# Altium schematic symbol library Triac_Thyristor.SchLib: 46 symbols
Pins are listed as number, name and electrical type; pins without a type are passive.

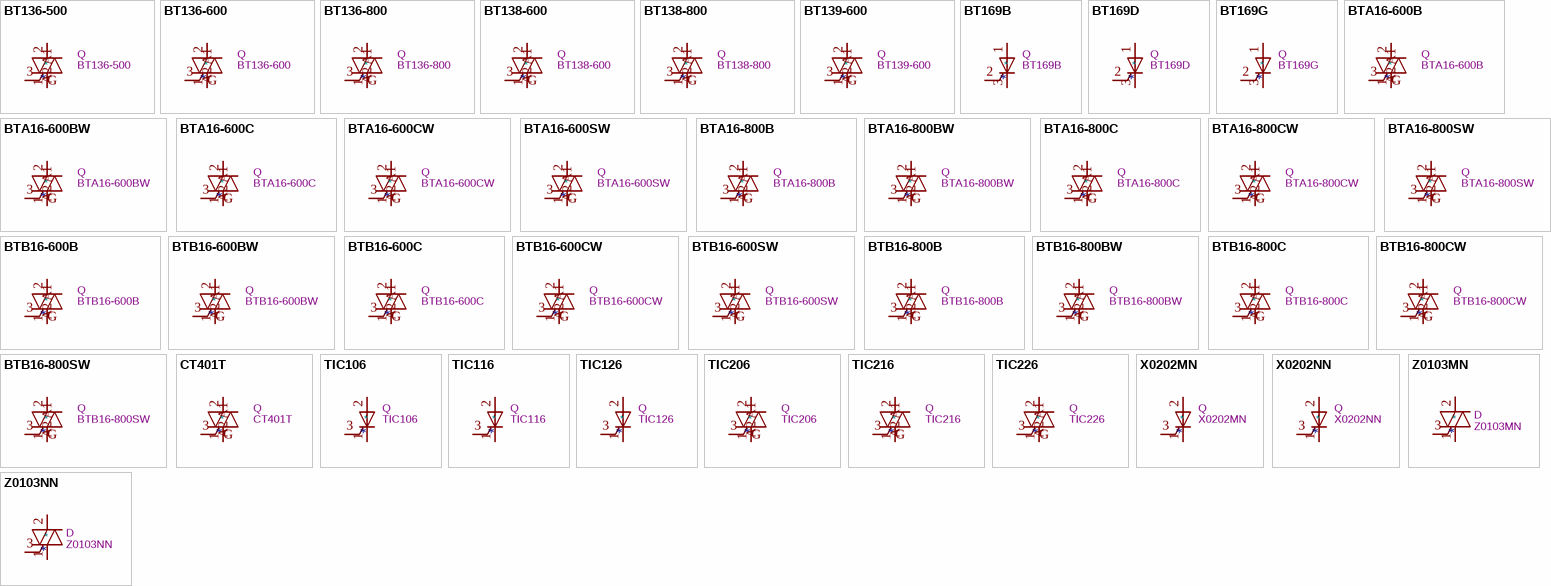
[diagram p0: symbols BT136-500 to Z0103NN]

## BT136-500
designator *  value BT136-500  Reference: Q
ki_keywords: Triac; ki_description: 4A RMS, 500V Off-State Voltage, Triac, TO-220; ki_fp_filters: TO?220*; Footprint: Package_TO_SOT_THT:TO-220-3_Vertical; Datasheet: http://www.micropik.com/PDF/BT136-600.pdf
pins: 1 A1, 2 A2, 3 G

## BT136-600
designator *  value BT136-600  Reference: Q
ki_keywords: Triac; ki_description: 4A RMS, 500V Off-State Voltage, Triac, TO-220; ki_fp_filters: TO?220*; Footprint: Package_TO_SOT_THT:TO-220-3_Vertical; Datasheet: http://www.micropik.com/PDF/BT136-600.pdf
pins: 1 A1, 2 A2, 3 G

## BT136-800
designator *  value BT136-800  Reference: Q
ki_keywords: Triac; ki_description: 4A RMS, 800V Off-State Voltage, Triac, TO-220; ki_fp_filters: TO?220*; Footprint: Package_TO_SOT_THT:TO-220-3_Vertical; Datasheet: http://www.micropik.com/PDF/BT136-600.pdf
pins: 1 A1, 2 A2, 3 G

## BT138-600
designator *  value BT138-600  Reference: Q
ki_keywords: Triac; ki_description: 12A RMS, 600V Off-State Voltage, Triac, TO-220; ki_fp_filters: TO?220*; Footprint: Package_TO_SOT_THT:TO-220-3_Vertical; Datasheet: https://assets.nexperia.com/documents/data-sheet/BT138_SER_D_E.pdf
pins: 1 A1, 2 A2, 3 G

## BT138-800
designator *  value BT138-800  Reference: Q
ki_keywords: Triac; ki_description: 12A RMS, 800V Off-State Voltage, Triac, TO-220; ki_fp_filters: TO?220*; Footprint: Package_TO_SOT_THT:TO-220-3_Vertical; Datasheet: https://assets.nexperia.com/documents/data-sheet/BT138_SER_D_E.pdf
pins: 1 A1, 2 A2, 3 G

## BT139-600
designator *  value BT139-600  Reference: Q
ki_keywords: Triac; ki_description: 16A RMS, 600V Off-State Voltage, 4Q Triac, TO-220; ki_fp_filters: TO?220*; Footprint: Package_TO_SOT_THT:TO-220-3_Vertical; Datasheet: https://www.rapidonline.com/pdf/47-3240.pdf
pins: 1 A1, 2 A2, 3 G

## BT169B
designator *  value BT169B  Reference: Q
ki_keywords: thyristor logic level; ki_description: 0.5A Ion, 200V Voff, Thyristors logic level, Silicon Controlled Rectifier (Thyristor), TO-92; ki_fp_filters: TO?92*Inline*Narrow*; Footprint: Package_TO_SOT_THT:TO-92_Inline; Datasheet: https://media.digikey.com/pdf/Data%20Sheets/NXP%20PDFs/BT169_Series.pdf
pins: 1 A, 2 G, 3 K

## BT169D
designator *  value BT169D  Reference: Q
ki_keywords: thyristor logic level; ki_description: 0.5A Ion, 400V Voff, Thyristors logic level, Silicon Controlled Rectifier (Thyristor), TO-92; ki_fp_filters: TO?92*Inline*Narrow*; Footprint: Package_TO_SOT_THT:TO-92_Inline; Datasheet: https://media.digikey.com/pdf/Data%20Sheets/NXP%20PDFs/BT169_Series.pdf
pins: 1 A, 2 G, 3 K

## BT169G
designator *  value BT169G  Reference: Q
ki_keywords: thyristor logic level; ki_description: 0.5A Ion, 600V Voff, Thyristors logic level, Silicon Controlled Rectifier (Thyristor), TO-92; ki_fp_filters: TO?92*Inline*Narrow*; Footprint: Package_TO_SOT_THT:TO-92_Inline; Datasheet: https://media.digikey.com/pdf/Data%20Sheets/NXP%20PDFs/BT169_Series.pdf
pins: 1 A, 2 G, 3 K

## BTA16-600B
designator *  value BTA16-600B  Reference: Q
ki_keywords: Triac; ki_description: 16A RMS, 600V Off-State Voltage, 50mA Sensitivity, Insulated, Triac, TO-220; ki_fp_filters: TO?220*; Footprint: Package_TO_SOT_THT:TO-220-3_Vertical; Datasheet: https://www.st.com/resource/en/datasheet/bta16.pdf
pins: 1 A1, 2 A2, 3 G

## BTA16-600BW
designator *  value BTA16-600BW  Reference: Q
ki_keywords: Triac; ki_description: 16A RMS, 600V Off-State Voltage, 50mA Sensitivity, Snubberless, Insulated, Triac, TO-220; ki_fp_filters: TO?220*; Footprint: Package_TO_SOT_THT:TO-220-3_Vertical; Datasheet: https://www.st.com/resource/en/datasheet/bta16.pdf
pins: 1 A1, 2 A2, 3 G

## BTA16-600C
designator *  value BTA16-600C  Reference: Q
ki_keywords: Triac; ki_description: 16A RMS, 600V Off-State Voltage, 35mA Sensitivity, Insulated, Triac, TO-220; ki_fp_filters: TO?220*; Footprint: Package_TO_SOT_THT:TO-220-3_Vertical; Datasheet: https://www.st.com/resource/en/datasheet/bta16.pdf
pins: 1 A1, 2 A2, 3 G

## BTA16-600CW
designator *  value BTA16-600CW  Reference: Q
ki_keywords: Triac; ki_description: 16A RMS, 600V Off-State Voltage, 35mA Sensitivity, Snubberless, Insulated, Triac, TO-220; ki_fp_filters: TO?220*; Footprint: Package_TO_SOT_THT:TO-220-3_Vertical; Datasheet: https://www.st.com/resource/en/datasheet/bta16.pdf
pins: 1 A1, 2 A2, 3 G

## BTA16-600SW
designator *  value BTA16-600SW  Reference: Q
ki_keywords: Triac; ki_description: 16A RMS, 600V Off-State Voltage, 10mA Sensitivity, Snubberless, Insulated, Triac, TO-220; ki_fp_filters: TO?220*; Footprint: Package_TO_SOT_THT:TO-220-3_Vertical; Datasheet: https://www.st.com/resource/en/datasheet/bta16.pdf
pins: 1 A1, 2 A2, 3 G

## BTA16-800B
designator *  value BTA16-800B  Reference: Q
ki_keywords: Triac; ki_description: 16A RMS, 800V Off-State Voltage, 50mA Sensitivity, Insulated, Triac, TO-220; ki_fp_filters: TO?220*; Footprint: Package_TO_SOT_THT:TO-220-3_Vertical; Datasheet: https://www.st.com/resource/en/datasheet/bta16.pdf
pins: 1 A1, 2 A2, 3 G

## BTA16-800BW
designator *  value BTA16-800BW  Reference: Q
ki_keywords: Triac; ki_description: 16A RMS, 800V Off-State Voltage, 50mA Sensitivity, Snubberless, Insulated, Triac, TO-220; ki_fp_filters: TO?220*; Footprint: Package_TO_SOT_THT:TO-220-3_Vertical; Datasheet: https://www.st.com/resource/en/datasheet/bta16.pdf
pins: 1 A1, 2 A2, 3 G

## BTA16-800C
designator *  value BTA16-800C  Reference: Q
ki_keywords: Triac; ki_description: 16A RMS, 800V Off-State Voltage, 35mA Sensitivity, Insulated, Triac, TO-220; ki_fp_filters: TO?220*; Footprint: Package_TO_SOT_THT:TO-220-3_Vertical; Datasheet: https://www.st.com/resource/en/datasheet/bta16.pdf
pins: 1 A1, 2 A2, 3 G

## BTA16-800CW
designator *  value BTA16-800CW  Reference: Q
ki_keywords: Triac; ki_description: 16A RMS, 800V Off-State Voltage, 35mA Sensitivity, Snubberless, Insulated, Triac, TO-220; ki_fp_filters: TO?220*; Footprint: Package_TO_SOT_THT:TO-220-3_Vertical; Datasheet: https://www.st.com/resource/en/datasheet/bta16.pdf
pins: 1 A1, 2 A2, 3 G

## BTA16-800SW
designator *  value BTA16-800SW  Reference: Q
ki_keywords: Triac; ki_description: 16A RMS, 800V Off-State Voltage, 10mA Sensitivity, Snubberless, Insulated, Triac, TO-220; ki_fp_filters: TO?220*; Footprint: Package_TO_SOT_THT:TO-220-3_Vertical; Datasheet: https://www.st.com/resource/en/datasheet/bta16.pdf
pins: 1 A1, 2 A2, 3 G

## BTB16-600B
designator *  value BTB16-600B  Reference: Q
ki_keywords: Triac; ki_description: 16A RMS, 600V Off-State Voltage, 50mA Sensitivity, Non-Insulated, Triac, TO-220; ki_fp_filters: TO?220*; Footprint: Package_TO_SOT_THT:TO-220-3_Vertical; Datasheet: https://www.st.com/resource/en/datasheet/bta16.pdf
pins: 1 A1, 2 A2, 3 G

## BTB16-600BW
designator *  value BTB16-600BW  Reference: Q
ki_keywords: Triac; ki_description: 16A RMS, 600V Off-State Voltage, 50mA Sensitivity, Snubberless, Non-Insulated, Triac, TO-220; ki_fp_filters: TO?220*; Footprint: Package_TO_SOT_THT:TO-220-3_Vertical; Datasheet: https://www.st.com/resource/en/datasheet/bta16.pdf
pins: 1 A1, 2 A2, 3 G

## BTB16-600C
designator *  value BTB16-600C  Reference: Q
ki_keywords: Triac; ki_description: 16A RMS, 600V Off-State Voltage, 35mA Sensitivity, Non-Insulated, Triac, TO-220; ki_fp_filters: TO?220*; Footprint: Package_TO_SOT_THT:TO-220-3_Vertical; Datasheet: https://www.st.com/resource/en/datasheet/bta16.pdf
pins: 1 A1, 2 A2, 3 G

## BTB16-600CW
designator *  value BTB16-600CW  Reference: Q
ki_keywords: Triac; ki_description: 16A RMS, 600V Off-State Voltage, 35mA Sensitivity, Snubberless, Non-Insulated, Triac, TO-220; ki_fp_filters: TO?220*; Footprint: Package_TO_SOT_THT:TO-220-3_Vertical; Datasheet: https://www.st.com/resource/en/datasheet/bta16.pdf
pins: 1 A1, 2 A2, 3 G

## BTB16-600SW
designator *  value BTB16-600SW  Reference: Q
ki_keywords: Triac; ki_description: 16A RMS, 600V Off-State Voltage, 10mA Sensitivity, Snubberless, Non-Insulated, Triac, TO-220; ki_fp_filters: TO?220*; Footprint: Package_TO_SOT_THT:TO-220-3_Vertical; Datasheet: https://www.st.com/resource/en/datasheet/bta16.pdf
pins: 1 A1, 2 A2, 3 G

## BTB16-800B
designator *  value BTB16-800B  Reference: Q
ki_keywords: Triac; ki_description: 16A RMS, 800V Off-State Voltage, 50mA Sensitivity, Non-Insulated, Triac, TO-220; ki_fp_filters: TO?220*; Footprint: Package_TO_SOT_THT:TO-220-3_Vertical; Datasheet: https://www.st.com/resource/en/datasheet/bta16.pdf
pins: 1 A1, 2 A2, 3 G

## BTB16-800BW
designator *  value BTB16-800BW  Reference: Q
ki_keywords: Triac; ki_description: 16A RMS, 800V Off-State Voltage, 50mA Sensitivity, Snubberless, Non-Insulated, Triac, TO-220; ki_fp_filters: TO?220*; Footprint: Package_TO_SOT_THT:TO-220-3_Vertical; Datasheet: https://www.st.com/resource/en/datasheet/bta16.pdf
pins: 1 A1, 2 A2, 3 G

## BTB16-800C
designator *  value BTB16-800C  Reference: Q
ki_keywords: Triac; ki_description: 16A RMS, 800V Off-State Voltage, 35mA Sensitivity, Non-Insulated, Triac, TO-220; ki_fp_filters: TO?220*; Footprint: Package_TO_SOT_THT:TO-220-3_Vertical; Datasheet: https://www.st.com/resource/en/datasheet/bta16.pdf
pins: 1 A1, 2 A2, 3 G

## BTB16-800CW
designator *  value BTB16-800CW  Reference: Q
ki_keywords: Triac; ki_description: 16A RMS, 800V Off-State Voltage, 35mA Sensitivity, Snubberless, Non-Insulated, Triac, TO-220; ki_fp_filters: TO?220*; Footprint: Package_TO_SOT_THT:TO-220-3_Vertical; Datasheet: https://www.st.com/resource/en/datasheet/bta16.pdf
pins: 1 A1, 2 A2, 3 G

## BTB16-800SW
designator *  value BTB16-800SW  Reference: Q
ki_keywords: Triac; ki_description: 16A RMS, 800V Off-State Voltage, 10mA Sensitivity, Snubberless, Non-Insulated, Triac, TO-220; ki_fp_filters: TO?220*; Footprint: Package_TO_SOT_THT:TO-220-3_Vertical; Datasheet: https://www.st.com/resource/en/datasheet/bta16.pdf
pins: 1 A1, 2 A2, 3 G

## CT401T
designator *  value CT401T  Reference: Q
ki_keywords: Triac; ki_description: 1A RMS, 600-800V Off-State Voltage, 1.55V On-State Voltage, Triac, SOT-223; ki_fp_filters: SOT?223*; Footprint: Package_TO_SOT_SMD:SOT-223; Datasheet: https://www.jscj-elec.com/gallery//file/CT401T-600%20SOT-223-3LK%20V1.pdf
pins: 1 A1, 2 A2, 3 G

## TIC106
designator *  value TIC106  Reference: Q
ki_keywords: thyristor; ki_description: 5A Ion, 400-800V Voff, Silicon Controlled Rectifier (Thyristor), TO-220; ki_fp_filters: TO?220*; Footprint: Package_TO_SOT_THT:TO-220-3_Vertical; Datasheet: http://pdf.datasheetcatalog.com/datasheet/PowerInnovations/mXyzrtvs.pdf
pins: 1 K, 2 A, 3 G

## TIC116
designator *  value TIC116  Reference: Q
ki_keywords: thyristor; ki_description: 8A Ion, 400-800V Voff, Silicon Controlled Rectifier (Thyristor), TO-220; ki_fp_filters: TO?220*; Footprint: Package_TO_SOT_THT:TO-220-3_Vertical; Datasheet: https://www.princeton.edu/~mae412/HANDOUTS/Datasheets/TIC116.pdf
pins: 1 K, 2 A, 3 G

## TIC126
designator *  value TIC126  Reference: Q
ki_keywords: thyristor; ki_description: 12A Ion, 400-800V Voff, Silicon Controlled Rectifier (Thyristor), TO-220; ki_fp_filters: TO?220*; Footprint: Package_TO_SOT_THT:TO-220-3_Vertical; Datasheet: https://cdn-reichelt.de/documents/datenblatt/A400/TIC126.pdf
pins: 1 K, 2 A, 3 G

## TIC206
designator *  value TIC206  Reference: Q
ki_keywords: Triac; ki_description: 4A RMS, 400-700V Off-State Voltage, Sensitive Gate Triac, TO-220; ki_fp_filters: TO?220*; Footprint: Package_TO_SOT_THT:TO-220-3_Vertical; Datasheet: http://www.farnell.com/datasheets/56922.pdf
pins: 1 A1, 2 A2, 3 G

## TIC216
designator *  value TIC216  Reference: Q
ki_keywords: Triac; ki_description: 6A RMS, 400-800V Off-State Voltage, Triac, TO-220; ki_fp_filters: TO?220*; Footprint: Package_TO_SOT_THT:TO-220-3_Vertical; Datasheet: http://www.mouser.com/ds/2/54/tic216-37811.pdf
pins: 1 A1, 2 A2, 3 G

## TIC226
designator *  value TIC226  Reference: Q
ki_keywords: Triac; ki_description: 8A RMS, 400-800V Off-State Voltage, Triac, TO-220; ki_fp_filters: TO?220*; Footprint: Package_TO_SOT_THT:TO-220-3_Vertical; Datasheet: http://pdf.datasheetcatalog.com/datasheet/PowerInnovations/mXuqxvy.pdf
pins: 1 A1, 2 A2, 3 G

## X0202MN
designator *  value X0202MN  Reference: Q
ki_keywords: thyristor; ki_description: 1.25A Ion, 600 Voff, Silicon Controlled Rectifier (Thyristor), SOT-223; ki_fp_filters: SOT?223*; Footprint: Package_TO_SOT_SMD:SOT-223; Datasheet: https://www.st.com/resource/en/datasheet/x02.pdf
pins: 1 K, 2 A, 3 G, 4 A hidden

## X0202NN
designator *  value X0202NN  Reference: Q
ki_keywords: thyristor; ki_description: 1.25A Ion, 800 Voff, Silicon Controlled Rectifier (Thyristor), SOT-223; ki_fp_filters: SOT?223*; Footprint: Package_TO_SOT_SMD:SOT-223; Datasheet: https://www.st.com/resource/en/datasheet/x02.pdf
pins: 1 K, 2 A, 3 G, 4 A hidden

## Z0103MN
designator *  value Z0103MN  Reference: D
ki_keywords: 4Q Triac; ki_description: 4Q Triac, 1A RMS, 600V VDRM, 3mA Igt, 7mA Ih, SOT-223; ki_fp_filters: SOT*223*; Footprint: Package_TO_SOT_SMD:SOT-223; Datasheet: http://www.st.com/resource/en/datasheet/z01.pdf
pins: 1 A1, 2 A2, 3 G, 4 A4 hidden

## Z0103NN
designator *  value Z0103NN  Reference: D
ki_keywords: 4Q Triac; ki_description: 4Q Triac, 1A RMS, 800V VDRM, 3mA Igt, 7mA Ih, SOT-223; ki_fp_filters: SOT*223*; Footprint: Package_TO_SOT_SMD:SOT-223; Datasheet: http://www.st.com/resource/en/datasheet/z01.pdf
pins: 1 A1, 2 A2, 3 G, 4 A4 hidden

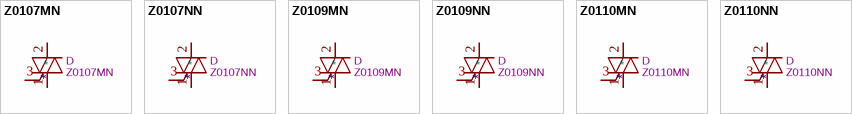
[diagram p1: symbols Z0107MN to Z0110NN]

## Z0107MN
designator *  value Z0107MN  Reference: D
ki_keywords: 4Q Triac; ki_description: 4Q Triac, 1A RMS, 600V VDRM, 5mA Igt, 10mA Ih, SOT-223; ki_fp_filters: SOT*223*; Footprint: Package_TO_SOT_SMD:SOT-223; Datasheet: http://www.st.com/resource/en/datasheet/z01.pdf
pins: 1 A1, 2 A2, 3 G, 4 A4 hidden

## Z0107NN
designator *  value Z0107NN  Reference: D
ki_keywords: 4Q Triac; ki_description: 4Q Triac, 1A RMS, 800V VDRM, 5mA Igt, 10mA Ih, SOT-223; ki_fp_filters: SOT*223*; Footprint: Package_TO_SOT_SMD:SOT-223; Datasheet: http://www.st.com/resource/en/datasheet/z01.pdf
pins: 1 A1, 2 A2, 3 G, 4 A4 hidden

## Z0109MN
designator *  value Z0109MN  Reference: D
ki_keywords: 4Q Triac; ki_description: 4Q Triac, 1A RMS, 600V VDRM, 10mA Igt, 10mA Ih, SOT-223; ki_fp_filters: SOT*223*; Footprint: Package_TO_SOT_SMD:SOT-223; Datasheet: http://www.st.com/resource/en/datasheet/z01.pdf
pins: 1 A1, 2 A2, 3 G, 4 A4 hidden

## Z0109NN
designator *  value Z0109NN  Reference: D
ki_keywords: 4Q Triac; ki_description: 4Q Triac, 1A RMS, 800V VDRM, 10mA Igt, 10mA Ih, SOT-223; ki_fp_filters: SOT*223*; Footprint: Package_TO_SOT_SMD:SOT-223; Datasheet: http://www.st.com/resource/en/datasheet/z01.pdf
pins: 1 A1, 2 A2, 3 G, 4 A4 hidden

## Z0110MN
designator *  value Z0110MN  Reference: D
ki_keywords: 4Q Triac; ki_description: 4Q Triac, 1A RMS, 600V VDRM, 25mA Igt, 25mA Ih, SOT-223; ki_fp_filters: SOT*223*; Footprint: Package_TO_SOT_SMD:SOT-223; Datasheet: http://www.st.com/resource/en/datasheet/z01.pdf
pins: 1 A1, 2 A2, 3 G, 4 A4 hidden

## Z0110NN
designator *  value Z0110NN  Reference: D
ki_keywords: 4Q Triac; ki_description: 4Q Triac, 1A RMS, 800V VDRM, 25mA Igt, 25mA Ih, SOT-223; ki_fp_filters: SOT*223*; Footprint: Package_TO_SOT_SMD:SOT-223; Datasheet: http://www.st.com/resource/en/datasheet/z01.pdf
pins: 1 A1, 2 A2, 3 G, 4 A4 hidden